# Altium schematic symbol library Connectors.SchLib: 27 symbols
Pins are listed as number, name and electrical type; pins without a type are passive.

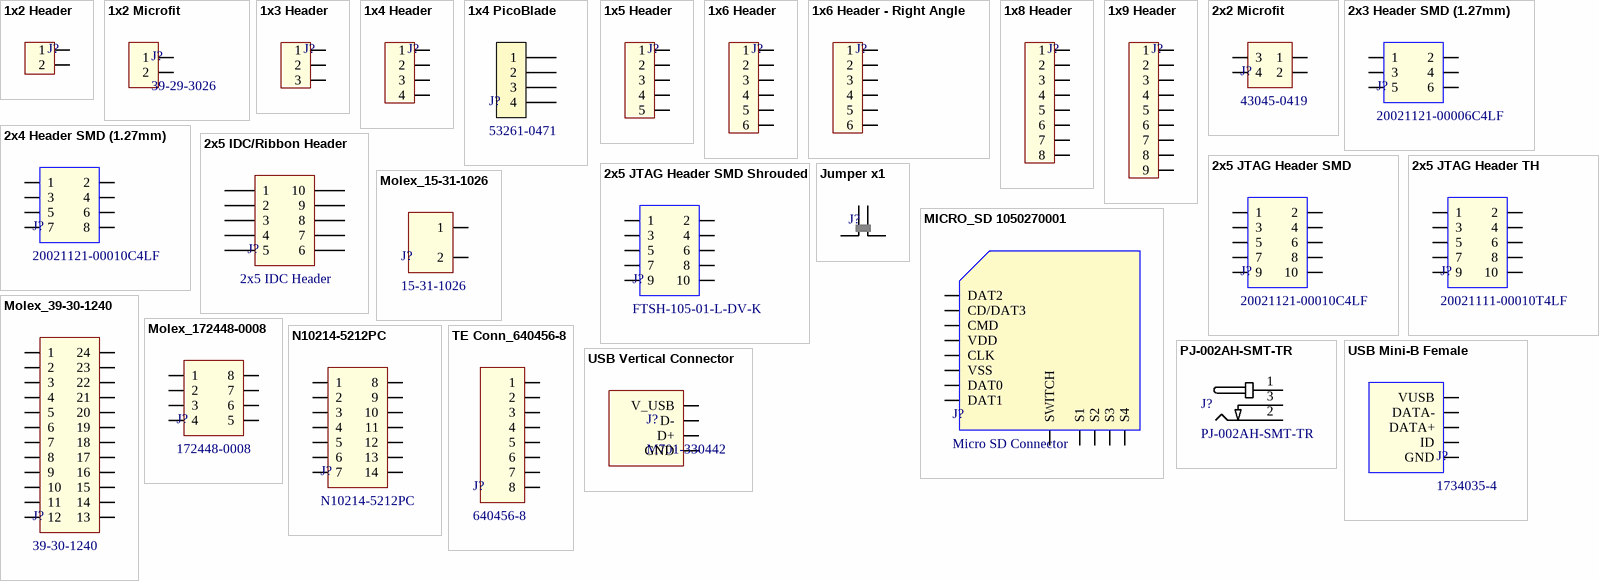
[diagram p0: symbols 1x2 Header to USB Vertical Connector]

## 1x2 Header
designator J?  (value not drawn)
1x2 Header, 2.52mm pitch
footprint 1x2 Header
pins: 1, 2

## 1x2 Microfit
designator J?, comment 39-29-3026
1x2 MicroFit; MFG: MOLEX; CURRENT: 9A; MFG_PN: 39-29-3026; MATES_WITH_HOUSING: 39-01-2020; MATES_WITH_PIN: 39-00-0038
footprint 1x2 MicroFit (1x2 Molex MicroFit)
pins: 1, 2

## 1x3 Header
designator J?  (value not drawn)
1x3 Header, 2.52mm pitch
footprint 1x3 Header
pins: 1, 2, 3

## 1x4 Header
designator J?  (value not drawn)
1x3 Header, 2.52mm pitch
footprint 1x4 Header
pins: 1, 2, 3, 4

## 1x4 PicoBlade
designator J?, comment 53261-0471
1x4 PicoBlade, 1.25mm Pitch, SMD; MFG: MOLEX; LOAD: NL; I_MAX: 1A; V_MAX: 125V; MATES_WITH_HOUSING: 51021-0400; MATES_WITH_PIN: 50079-8000; MFG_PN: 53261-0471
footprint 1x4 PicoBlade
pins: 1, 2, 3, 4

## 1x5 Header
designator J?  (value not drawn)
1x5 Header, 2.52mm pitch
footprint 1x5 Header
pins: 1, 2, 3, 4, 5

## 1x6 Header
designator J?  (value not drawn)
1x6 Header, 2.52mm pitch
footprint 1x6 Header
pins: 1, 2, 3, 4, 5, 6

## 1x6 Header - Right Angle
designator J?, comment 1x6 Header - Right Abgle  (value not drawn)
1x6 Header, 2.52mm pitch, Right Angle
footprint 1x6 Header - Right Angle
pins: 1, 2, 3, 4, 5, 6

## 1x8 Header
designator J?  (value not drawn)
1x8 Header, 2.52mm pitch
footprint 1x8 Header
pins: 1, 2, 3, 4, 5, 6, 7, 8

## 1x9 Header
designator J?  (value not drawn)
1x9 Header, 2.52mm pitch
footprint 1x9 Header
pins: 1, 2, 3, 4, 5, 6, 7, 8, 9

## 2x2 Microfit
designator J?, comment 43045-0419
2x2 MicroFit; MFG: MOLEX; CURRENT: 5A; MATES_WITH_HOUSING: 43025-0400; MFG_PN: 43045-0419; MATES_WITH_PIN: 43025-0400
footprint MicroFit 2x2
pins: 1, 2, 3, 4

## 2x3 Header SMD (1.27mm)
designator J?, comment 20021121-00006C4LF
2x3 Header SMD (1.27mm); LOAD: NL; MFG: FCI; CURRENT: 1A; MFG_PN: 20021121-00006C4LF
footprint 2x3 SMD Header 1.27mm
pins: 1, 2, 3, 4, 5, 6

## 2x4 Header SMD (1.27mm)
designator J?, comment 20021121-00010C4LF
2x4 Header SMD (1.27mm); LOAD: NL; MFG: FCI; CURRENT: 1A; MFG_PN: 20021121-00010C4LF
footprint 2x4 SMD Header 1.27mm
pins: 1, 2, 3, 4, 5, 6, 7, 8

## 2x5 IDC/Ribbon Header
designator J?, comment 87831-1010  (value not drawn)
2x5 IDC Header; MFG: MOLEX; ROWS: 2; POSITIONS: 10; CURRENT: 2A; MATES_WITH: 87568-1063; MFG_PN: 87831-1010; TYPE: 2x5 IDC Header
footprint MOLEX_87831-1010 (Boardmount Receptacle for 2x5 IDC Header)
pins: 1, 2, 3, 4, 5, 6, 7, 8, 9, 10

## 2x5 JTAG Header SMD
designator J?, comment 20021121-00010C4LF
2x5 JTAG Header SMD (1.27mm); LOAD: NL; MFG: FCI; CURRENT: 1A; MFG_PN: 20021121-00010C4LF
footprint 2x5 JTAG Header
pins: 1, 2, 3, 4, 5, 6, 7, 8, 9, 10

## 2x5 JTAG Header SMD Shrouded
designator J?, comment FTSH-105-01-L-DV-K
2x5 JTAG Header SMD Shrouded (1.27mm); LOAD: NL; MFG: SAMTEC; CURRENT: 1A; MFG_PN: FTSH-105-01-L-DV-K
footprint 2x5 JTAG Header
pins: 1, 2, 3, 4, 5, 6, 7, 8, 9, 10

## 2x5 JTAG Header TH
designator J?, comment 20021111-00010T4LF
2x5 JTAG Header TH (1.27mm); LOAD: NL; MFG: FCI; CURRENT: 1A; MFG_PN: 20021111-00010T4LF
footprint 2x5 Header (1.27mm)
pins: 1, 2, 3, 4, 5, 6, 7, 8, 9, 10

## Jumper x1
designator J?, comment None  (value not drawn)
Jumper_Single_2.54mm
footprint Jumper_2.54mm_2x1
pins: 1, 2

## MICRO_SD 1050270001
designator J?, comment Micro SD Connector
LOAD: NL; MFG_PN: 1050270001; MFG: MOLEX
footprint MICROSD_1050270001
pins: G1 SWITCH, P1 DAT2, P2 CD/DAT3, P3 CMD, P4 VDD, P5 CLK, P6 VSS, P7 DAT0, P8 DAT1, S1, S2, S3, S4

## Molex_15-31-1026
designator J?, comment 15-31-1026
2 pin Socket; MFG: MOLEX; CURRENT: 12A; MFG_PN: 15-31-1026; MATING_CONN: 19-09-1026
footprint MOLEX_15-31-1026
pins: 1, 2

## Molex_39-30-1240
designator J?, comment 39-30-1240
Male Connector for ATX Power Supply; MFG: MOLEX; CURRENT: 13A; MFG_PN: 39-30-1240
footprint MOLEX 39-30-1240 (Connector for ATX power supply)
pins: 1, 2, 3, 4, 5, 6, 7, 8, 9, 10, 11, 12, 13, 14, 15, 16, 17, 18, 19, 20, 21, 22, 23, 24

## Molex_172448-0008
designator J?, comment 172448-0008
Male Connector for ATX Power Supply; MFG: MOLEX; CURRENT: 13A; MFG_PN: 172448-0008
footprint MOLEX_172448-0008
pins: 1, 2, 3, 4, 5, 6, 7, 8

## N10214-5212PC
designator J?
14-pin Mini D-Ribbon Connector; MFG: 3M; CURRENT: 1A; MFG_PN: N10214-5212PC
footprint 3M_N10214-5212PC (14-pin Mini-D Ribbon Connector)
pins: 1, 2, 3, 4, 5, 6, 7, 8, 9, 10, 11, 12, 13, 14

## PJ-002AH-SMT-TR
designator J?
2.0mm ID/6.5mm OD Barrel Plug; MFG: CUI; VOLTAGE: 16v; CURRENT: 5A; MFG_PN: PJ-002AH-SMT-TR
footprint PJ-002AH-SMT-TR
pins: 1 PIN, 2 RING, 3 SWITCH

## TE Conn_640456-8
designator J?, comment 640456-8
8-Pos Friction Lock Pin; MFG: TE CONNECTIVITY; CURRENT: 5A; MATING_CONN: 3-640440-8; MFG_PN: 640456-8
footprint TE_CONN_640456=8
pins: 1, 2, 3, 4, 5, 6, 7, 8

## USB Mini-B Female
designator J?, comment 1734035-4
USB Mini B Female; MFG: TE CONNECTIVITY; CONTACTS: 5; LOAD: NL; MFG_PN: 1734035-4; TYPE: USB Mini B; GENDER: FEMALE
footprint USB MINI-B 1734035-4 (USB MINI B FEMALE)
pins: 1 VUSB, 2 DATA-, 3 DATA+, 4 ID, 5 GND, SH1 hidden to GND, SH2 hidden to GND, SH3 hidden to GND, SH4 hidden to GND

## USB Vertical Connector
designator J?, comment M701-330442
Board Mounted Vertical USB B-Type Plug; MFG: HARWIN; CURRENT: 4A; MFG_PN: M701-330442
footprint M701-330442 (Vertical Boardmount USB Connector)
pins: 1 V_USB, 2 D-, 3 D+, 4 GND